# Altium footprint library PcbLib1.PcbLib: 9 footprints
Each footprint in its own frame and in the unit in brackets; x right, y up, seen from the top. Pads: shape width x height; smd on the part's side, far side on the other; paste and mask are expansions set on the pad; w line width, h text height; cw(c..) or ccw(c..) is an arc to the next point about the centre after c.
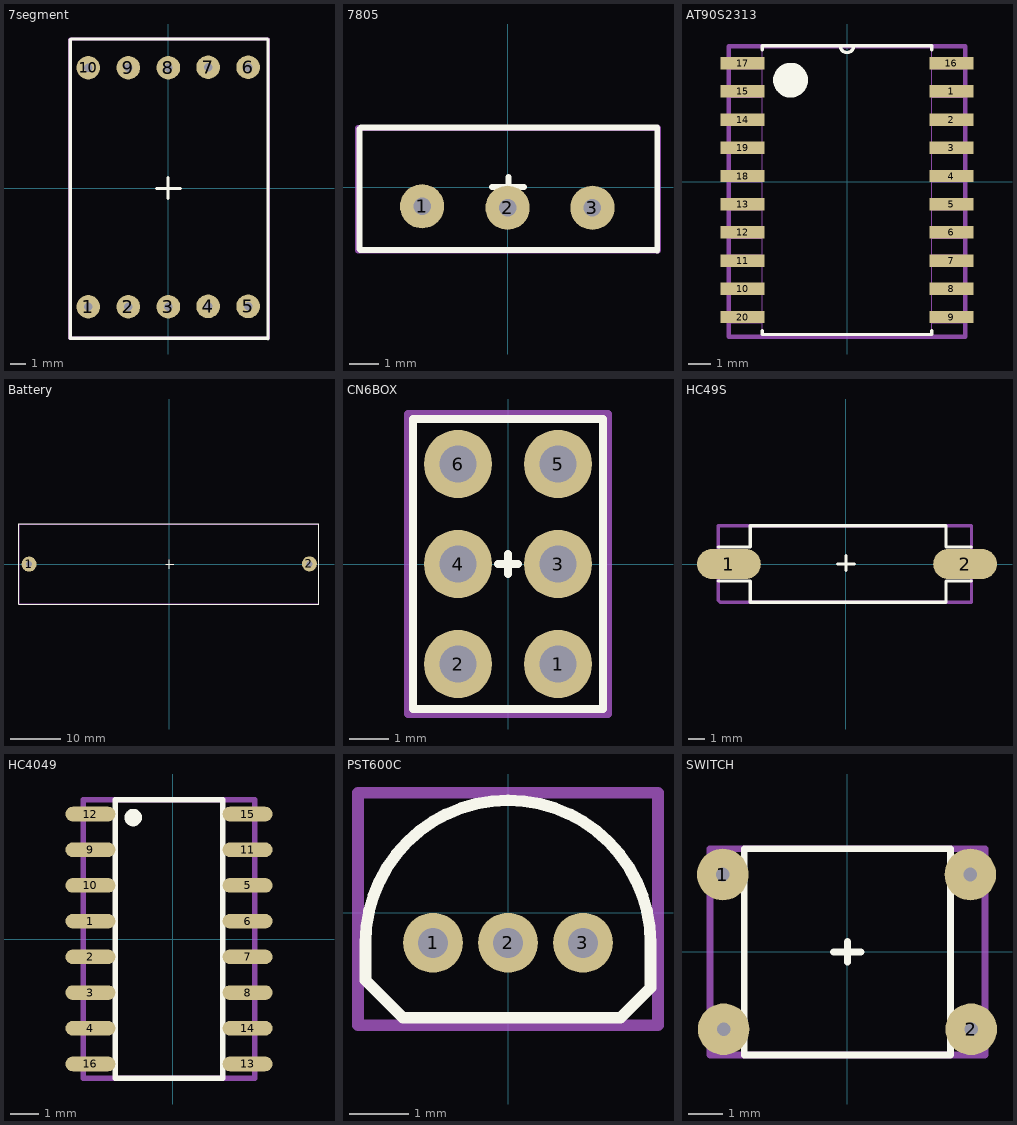
[diagram p0: the footprints below, top view; thin cyan lines are the x and y axes]

## 7segment [mm]
pads (10):
  round 1.5 hole 0.55: 1(-5.1,-7.55) 2(-2.55,-7.55) 3(0,-7.55) 4(2.525,-7.525) 5(5.075,-7.525) 6(5.075,7.7) 7(2.525,7.7) 8(0,7.675) 9(-2.55,7.675) 10(-5.1,7.675)
Top Overlay:
  lines w0.2: -6.25,9.45 -6.25,-9.525 -6.275,-9.55 6.3,-9.55 6.35,-9.6 6.35,9.45 6.3,9.5 -6.2,9.5 ; -0.75,-0.025 0.775,-0.025 ; -0.025,-0.65 -0.025,0.675
Border:
  lines w0.2: -6.3,-9.575 -6.3,9.475 -6.275,9.5 6.375,9.5 6.375,-9.55 -6.275,-9.55 -6.3,-9.575
3D body "end-el-san Co Ltd-King Bright SA-SC56-21.step": height 8.1, standoff -3.9, extent -6.35,-9.525 6.35,9.525

## 7805 [mm]
pads (3):
  round 1.5 hole 0.6 square: 1(-2.9,-0.65) 2(0,-0.7) 3(2.875,-0.7)
Top Overlay:
  lines w0.2: -5.025,1.975 -5.025,-2.1 -5,-2.125 5.05,-2.125 5.075,-2.15 5.075,2.025 -4.975,2.025 ; -0.525,0 0.55,0 ; 0.025,-0.375 0.025,0.35
Border:
  lines w0.2: -5.075,-2.15 5.1,-2.15 5.1,2 -5.075,2 -5.075,-2.15
3D body "User Library-L7805.step": height 21.95, standoff -6.87, extent -5.08,-2.17 5.08,2.025

## AT90S2313 [mil]
pads (20):
  rect 78x22 smd: 1(185,160) 2(185,110) 3(185,60) 4(185,10) 5(185,-40) 6(185,-90) 7(185,-140) 8(185,-190) 9(185,-240) 10(-185,-190) 11(-185,-140) 12(-185,-90) 13(-185,-40) 14(-185,110) 15(-185,160) 16(185,210) 17(-185,210) 18(-185,10) 19(-185,60) 20(-185,-240)
Top Overlay:
  circle w39.37: c-100,180 r11.18
  lines w6: -150,-264 -150,-271 150,-271 150,-264 ; -150,234 -150,241 -12,241 ; 150,234 150,241 12,241 ; -12,241 ccw(c0,241) 12,241 ; -12,241 12,241
Border:
  lines w7.87: -210,-275 210,-275 210,240 -210,240 -210,-275
Mechanical 4:
  drawing of 174 lines, arcs and shapes, not listed
3D body "User Library-SOIC-20_ws.STEP": height 104.72, standoff 0.11, extent -208.59,-276.29 208.6,235.91

## Battery [mm]
pads (2):
  round 3 hole 1.2: 1(-27.85,0) 2(27.85,0.075)
Top Overlay:
  lines w0.2: -0.725,0 0.825,0 0.85,-0.025 ; 0.025,-0.875 0.025,0.85 ; -29.85,-7.95 29.75,-7.95 29.75,8 29.725,8.025 -29.825,8.025 -29.85,8 -29.85,-7.95
Border:
  lines w0.2: -29.8,7.9 -29.8,-7.825 29.625,-7.825 29.7,-7.9 29.7,7.925 29.75,7.975 -29.725,7.975
3D body "User Library-BCAAPC.step": height 13.9, standoff -2.8, extent -29.85,-8 29.85,8

## CN6BOX [mil]
pads (6):
  oval 68.06x68.48 hole 37 square: 1(50,-100) 2(-50,-100) 3(50,0) 4(-50,0) 5(50,100) 6(-50,100)
Top Overlay:
  lines w7.87: -10,0 10,0 ; 0,-10 0,10 ; -95,-145 95,-145 95,145 -95,145 -95,-145
Border:
  lines w7.87: -100,-150 -100,150 100,150 100,-150 -100,-150
3D body "User Library-IDC6.step": height 333.07, standoff -100, extent -100,-150 100,150

## HC49S [mil]
pads (2):
  oval 150x70 smd: 1(-275,0) 2(280,0)
Top Overlay:
  lines w7.87: -275,-40 -300,-40 -225,-40 -225,-90 235,-90 235,-40 295,-40 285,-40 ; -275,40 -300,40 -225,40 -225,90 235,90 235,40 295,40 285,40 ; -20,0 20,0 ; 0,-15 0,20
Border:
  lines w7.87: -300,-85 -300,90 295,90 295,-90 -295,-90 -300,-85
3D body "User Library-HC49-SMD.step": height 200.79, standoff 0, extent -295.28,-88.58 295.28,88.58

## HC4049 [mil]
pads (16):
  oval 70.06x20.48 smd: 1(-115,25) 2(-115,-25) 3(-115,-75) 4(-115,-125) 5(105,75) 6(105,25) 7(105,-25) 8(105,-75) 9(-115,125) 10(-115,75) 11(105,125) 12(-115,175) 13(105,-175) 14(105,-125) 15(105,175) 16(-115,-175)
Top Overlay:
  lines w7.87: -80,-195 -80,195 70,195 70,-195 -80,-195
  lines w14.37: -51.46,166.46 cw(c-55,170) -50.84,167.23
Border:
  lines w7.87: -125,-195 115,-195 115,195 -125,195 -125,-190 -125,-195
3D body "User Library-SOIC-16-3.step": height 67, standoff 0, extent -127,-195 117,195

## PST600C [mil]
pads (3):
  round 40 hole 20 square: 1(-50,-20) 2(0,-20) 3(50,-20)
Top Overlay:
  lines w7.8: -95,-20 cw(c0,-20) 95,-20
  lines w7.87: -95,-20 -95,-45 -70,-70 75,-70 95,-50 95,-20
Border:
  lines w7.87: -100,-75 -100,80 100,80 100,-75 -100,-75
3D body "User Library-TO-92-7.step": height 334.65, standoff -157.48, extent -98.42,-73.93 98.43,78.43

## SWITCH [mm]
pads (5):
  round 1.5 hole 0.4 square: 1(-3.625,2.25) 2(3.6,-2.25) ""(-3.6,-2.25) ""(3.575,2.25)
  oval 1.5x0 all layers, no hole: 8(-2,3)
Top Overlay:
  lines w0.2: -0.4,0 0.4,0 ; 0,-0.3 0,0.3 ; -3,-3 -3,3 3,3 3,-3 -3,-3
Border:
  lines w0.2: -4,-3 -4,3 4,3 4,-3 -4,-3
3D body "User Library-diptronics tactile dts-63k.step": height 7.6, standoff -2.9, extent -3.95,-3.1 3.95,3.1